# Altium schematic symbol library PATCH_ANTENNA.Schlib: 1 symbol
Pins are listed as number, name and electrical type; pins without a type are passive.

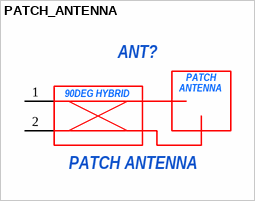
[diagram p0: symbol PATCH_ANTENNA]

## PATCH_ANTENNA
designator ANT?, comment PATCH ANTENNA  (no BOM)
ManufacturerPartNumber: FC1-5211; manufacturer: *; Power/Voltage: *; Rem: *; TKE: *; Tolerance: *; Type: *; Value: *; Корпус: *; Примечание: *
pins: 1, 2
text: PATCH; ANTENNA; 90DEG HYBRID